# EAGLE library part TRHPSVG_LINK (library ElectricNoodleBox)
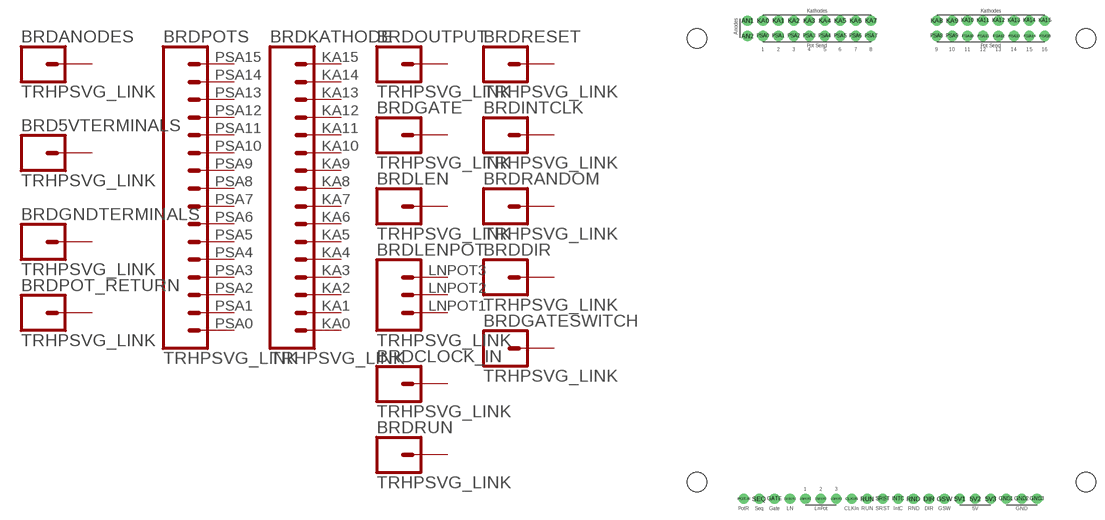
[diagram p17: symbol with the pads of TRHPSVG; footprint TRHPSVG]

Designator prefix BRD; gates POTS=CONN_16 KATHODE=CONN_16 OUTPUT=CONN_01 LENPOT=CONN_03 LEN=CONN_01 GATE=CONN_01 CLOCK_IN=CONN_01 RUN=CONN_01 RESET=CONN_01 INTCLK=CONN_01 RANDOM=CONN_01 DIR=CONN_01 GATESWITCH=CONN_01 5VTERMINALS=CONN_01 GNDTERMINALS=CONN_01 ANODES=CONN_01 POT_RETURN=CONN_01

## TRHPSVG_LINK  [TRHPSVG]
5V1  5VTERMINALS:1  pas
5V2  5VTERMINALS:1  pas
5V3  5VTERMINALS:1  pas
AN1  ANODES:1  pas
AN2  ANODES:1  pas
CLKIN  CLOCK_IN:1  pas
DIR  DIR:1  pas
GATE  GATE:1  pas
GND1  GNDTERMINALS:1  pas
GND2  GNDTERMINALS:1  pas
GND3  GNDTERMINALS:1  pas
GSW  GATESWITCH:1  pas
INTC  INTCLK:1  pas
KA0  KATHODE:1  pas
KA1  KATHODE:2  pas
KA2  KATHODE:3  pas
KA3  KATHODE:4  pas
KA4  KATHODE:5  pas
KA5  KATHODE:6  pas
KA6  KATHODE:7  pas
KA7  KATHODE:8  pas
KA8  KATHODE:9  pas
KA9  KATHODE:10  pas
KA10  KATHODE:11  pas
KA11  KATHODE:12  pas
KA12  KATHODE:13  pas
KA13  KATHODE:14  pas
KA14  KATHODE:15  pas
KA15  KATHODE:16  pas
LENGTH  LEN:1  pas
LNPOT1  LENPOT:1  pas
LNPOT2  LENPOT:2  pas
LNPOT3  LENPOT:3  pas
POT-R  POT_RETURN:1  pas
PSA0  POTS:1  pas
PSA1  POTS:2  pas
PSA2  POTS:3  pas
PSA3  POTS:4  pas
PSA4  POTS:5  pas
PSA5  POTS:6  pas
PSA6  POTS:7  pas
PSA7  POTS:8  pas
PSA8  POTS:9  pas
PSA9  POTS:10  pas
PSA10  POTS:11  pas
PSA11  POTS:12  pas
PSA12  POTS:13  pas
PSA13  POTS:14  pas
PSA14  POTS:15  pas
PSA15  POTS:16  pas
RND  RANDOM:1  pas
RUN  RUN:1  pas
SEQ  OUTPUT:1  pas
SRST  RESET:1  pas

## Footprint TRHPSVG (pad centres in mm)
drill 1.016 pad 1.676: 5V1 48.26,2.223; 5V2 50.8,2.223; 5V3 53.34,2.223; AN1 13.335,80.963; AN2 13.335,78.422; CLKIN 30.48,2.223; DIR 43.18,2.223; GATE 17.78,2.223; GND1 55.88,2.223; GND2 58.42,2.223; GND3 60.96,2.223; GSW 45.72,2.223; INTC 38.1,2.223; KA0 15.875,80.963; KA1 18.415,80.963; KA2 20.955,80.963; KA3 23.495,80.963; KA4 26.035,80.963; KA5 28.575,80.963; KA6 31.115,80.963; KA7 33.655,80.963; KA8 44.45,80.963; KA9 46.99,80.963; KA10 49.53,80.963; KA11 52.07,80.963; KA12 54.61,80.963; KA13 57.15,80.963; KA14 59.69,80.963; KA15 62.23,80.963; LENGTH 20.32,2.223; LNPOT1 22.86,2.223; LNPOT2 25.4,2.223; LNPOT3 27.94,2.223; POT-R 12.7,2.223; PSA0 15.875,78.422; PSA1 18.415,78.422; PSA2 20.955,78.422; PSA3 23.495,78.422; PSA4 26.035,78.422; PSA5 28.575,78.422; PSA6 31.115,78.422; PSA7 33.655,78.422; PSA8 44.45,78.422; PSA9 46.99,78.422; PSA10 49.53,78.422; PSA11 52.07,78.422; PSA12 54.61,78.422; PSA13 57.15,78.422; PSA14 59.69,78.422; PSA15 62.23,78.422; RND 40.64,2.223; RUN 33.02,2.223; SEQ 15.24,2.223; SRST 35.56,2.223
hole 3.2 at 5,5
hole 3.2 at 69,5
hole 3.2 at 5,78
hole 3.2 at 69,78